# Altium schematic symbol library CG2179M2.SchLib: 1 symbol
Pins are listed as number, name and electrical type; pins without a type are passive.

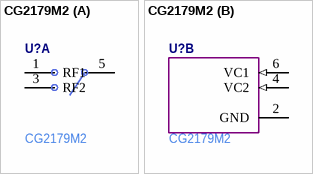
[diagram p0: symbol CG2179M2]

## CG2179M2
designator U?  Manufacturer Part Number: CG2179M2  (hidden comment: *)
part A pins: 1 RF1, 3 RF2, 5 RFIN
part B pins: 2 GND (power), 4 VC2 (in), 6 VC1 (in)